# Altium schematic symbol library u025Library.SchLib: 65 symbols
Pins are listed as number, name and electrical type; pins without a type are passive.

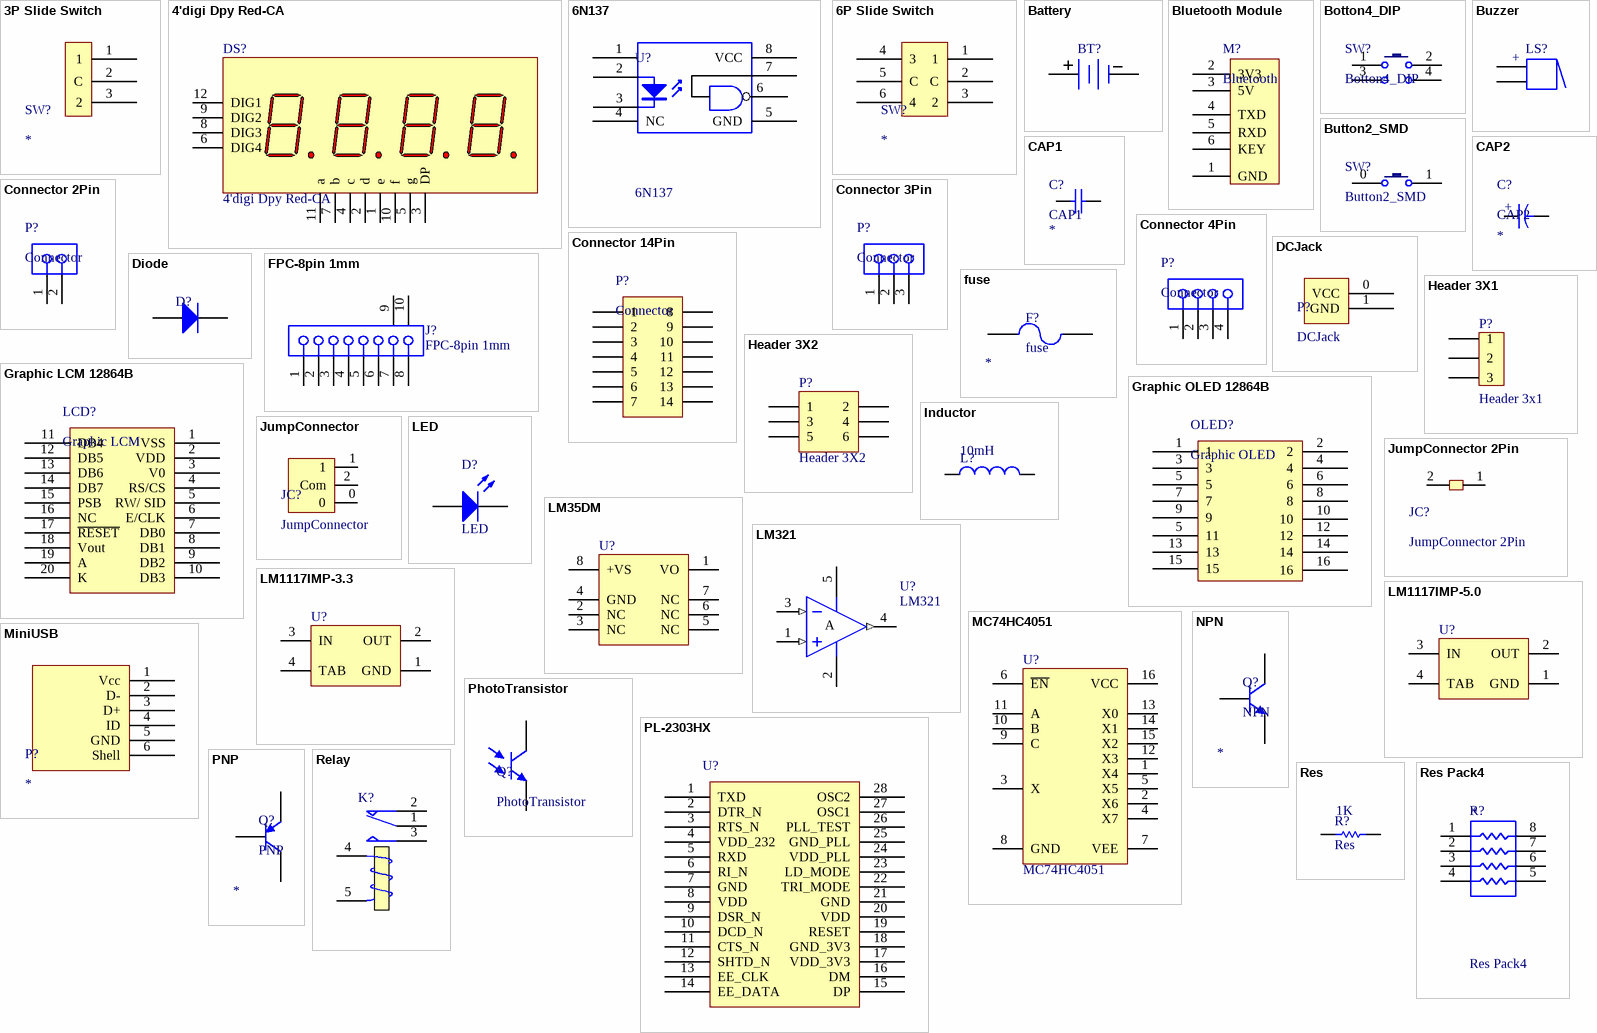
[diagram p0: symbols 3P Slide Switch to Res Pack4]

## 3P Slide Switch
designator SW?
3Pin Slide Switch
footprint 3P_Smooth_Switch_180
footprint 3P_Smooth_Switch_90
pins: 1, 2 C, 3 2

## 4'digi Dpy Red-CA
designator DS?
7.62 mm Black Surface HER 7-Segment Display: CA, RH DP; MinimumIntensity: 360 ucd; Note: IF = 5 mA; Colour: High Efficiency Red (HER); Note: Pins 1 and 6 are redundant Anodes.; Published: 8-Jun-2000; LatestRevisionDate: 17-Dec-2003; LatestRevisionNote: Schematic revised, PCB Footprint replaced.; DatasheetVersion: 19-Feb-2002; PackageVersion: 11-Feb-2002; PackageReference: A; Publisher: Altium Limited; PackageDescription: LED, 7-Segment Display, 7.62 mm, RHD; 10 Leads; Row Space 5.08 mm; Pitch 2.54 mm; ComponentLink1Description: Manufacturer Link; ComponentLink1URL: http://www.agilent.com/
footprint 4'digi Dpy Red-CA 3461 0.36' (4-Digi LED, 7-Segment Display)
pins: 1 e "Cathode", 2 d "Cathode", 3 DP "Cathode", 4 c "Cathode", 5 g "Cathode", 6 DIG4 "Cathode", 7 b "Cathode", 8 DIG3 "Cathode", 9 DIG2 "Cathode", 10 f "Cathode", 11 a "Cathode", 12 DIG1 "Cathode"

## 6N137
designator U?
8 PIN HIGH SPEED 10MBit/s LOGIC GATE  PHOTOCOUPLER
footprint BESOP-8 (BESOP  8-Leads, Body 6.6x9.76mm, Pitch 2.54mm,)
pins: 1 NC, 2 A, 3 K, 4 NC, 5 GND, 6 14, 7 14, 8 VCC

## 6P Slide Switch
designator SW?
6Pin Slide Switch
footprint 6P_Smooth_Switch_90
footprint 6P_Smooth_Switch_180
pins: 1, 2 C, 3 2, 4 3, 5 C, 6 4

## Battery
designator BT?
Multicell Battery; Published: 24-Mar-1999; LatestRevisionDate: 17-Jul-2002; LatestRevisionNote: Re-released for DXP Platform.; PackageReference: BAT-2; Publisher: Altium Limited; PackageDescription: Battery; 2 Leads
footprint BAT-2 (Battery; 2 Leads)
footprint BAT-CR1220 (Battery; CR1220)
pins: 1 +, 2 -

## Bluetooth Module
designator M?, comment Bluetooth
Bluetooth Module
footprint Bluetooth Module
pins: 1 GND, 2 3V3, 3 5V, 4 TXD, 5 RXD, 6 KEY

## Botton4_DIP
designator SW?
footprint Botton4_DIP
footprint Botton4_MiniSMD
pins: 1, 2, 3, 4

## Button2_SMD
designator SW?
footprint Button2_SMD
pins: 0, 1

## Buzzer
designator LS?
Magnetic Transducer Buzzer; Published: 24-Mar-1999; LatestRevisionDate: 17-Dec-2003; LatestRevisionNote: Schematic revised, PCB Footprint replaced.; DatasheetVersion: 17-Dec-2003; PackageReference: ABSM-1574; Publisher: Altium Limited; PackageDescription: Magnetic Transducer Buzzer; ComponentLink1Description: Manufacturer Link; ComponentLink1URL: http://www.megastar.com/linecard/buzzmode/index.php
footprint Buzzer DIP
footprint Buzzer SMT Top
footprint Buzzer SMT Side
pins: 1, 2
1 alternate drawing of the same symbol
text: +

## CAP1
designator C?
Capacitor_SMD; Value: *
footprint SMD-C-0603 (Chip, Body 1.6x0.8mm, IPC High Density)
footprint SMD-C-0805 (Chip  , Body 2 x 1.2mm, IPC High Density)
footprint SMD-C-1206 (Chip , Body 3.2x1.6mm, IPC High Density)
footprint Ceramic Capacitor
footprint SMD-C-0402 (Chip, Body 10x0.4mm, IPC High Density)
pins: 1, 2

## CAP2
designator C?
Electrolytic CAP; Value: *
footprint Electrolytic CAP_1
footprint EcCAP_SMD (EcCAP SMD 4x5x5mm)
footprint Tantalum Cap Size A
footprint Tantalum Cap Size B
footprint Tantalum Cap Size C
pins: 1, 2
text: +

## Connector 2Pin
designator P?, comment Connector
Connector 2Pin
footprint JST 2Pin 90 degree (Connector; JST; 2 Position 90)
footprint JST 2Pin 180 degree (Connector; JST; 2 Position 180)
pins: 1, 2

## Connector 3Pin
designator P?, comment Connector
Connector 3Pin
pins: 1, 2, 3

## Connector 4Pin
designator P?, comment Connector
Connector 4Pin
footprint FPC 4pin 1.0mm (Connector; FH12 Series; 4 Position; 1.0mm Spaced Bottom Eccentric Contact)
footprint JST 4Pin 90 degree (Connector; JST; 4 Position 90)
footprint JST 4Pin 180 degree (Connector; JST; 4 Position)
pins: 1, 2, 3, 4

## Connector 14Pin
designator P?, comment Connector
Connector 14Pin
footprint FPC 14pin 0.5mm (Connector; FH12 Series; 14 Position; 0.5mm Spaced Bottom Eccentric Contact)
pins: 1, 2, 3, 4, 5, 6, 7, 8, 9, 10, 11, 12, 13, 14

## DCJack
designator P?
footprint DCJack_1mm
footprint DCJack_2mm
pins: 0 VCC, 1 GND

## Diode
designator D?  (value not drawn)
Model  Number: *
footprint Diode_SMD_SMA
footprint Diode_SMD_MicroSMP
pins: 1 A, 2 K

## FPC-8pin 1mm
designator J?
FH12 Series, "Flip-Lock" SMT/ZIF FFC/FPC Connector - 1.0mm Spaced Bottom Eccentric Contact; Positions: 8; ContactMaterial: Phosphor Bronze; Current: 0.5A; PCB_Layout: Complies with manufacturer's recommendation.; Note: Pad dimensions follow nominal values, Suitable for Wave Soldering, Adjust for Re-flow.; Published: 17-Jul-2002; DatasheetVersion: 13-Nov-2000; PackageVersion: 13-Nov-2000; PackageReference: FH12-18(8)SA-1SH; Publisher: Altium Limited; ComponentLink1Description: Manufacturer Link; ComponentLink1URL: http://www.hiroseusa.com/; ComponentLink2Description: Datasheet; ComponentLink2URL: http://www.hirose.co.jp/cataloge_hp/e58605370.pdf
footprint FH12-18(8)SA-1SH (Connector; FH12 Series; 8 Position; 1.0mm Spaced Bottom Eccentric Contact)
signal-integrity model FH12
pins: 1, 2, 3, 4, 5, 6, 7, 8, 9 MH1, 10 MH2

## fuse
designator F?
Value: *
footprint FUSE_SMD
footprint FUSE_Nano SMF (FUSE Nano SMF)
footprint FUSE CLIP
pins: 1, 2

## Graphic LCM 12864B
designator LCD?, comment Graphic LCM
Graphic LCM 12864B
footprint GraphicLCM12864_20PIN (GraphicLCM12864_20PIN_15mm)
pins: 1 VSS, 2 VDD, 3 V0, 4 RS/CS, 5 RW/ SID, 6 E/CLK, 7 DB0, 8 DB1, 9 DB2, 10 DB3, 11 DB4, 12 DB5, 13 DB6, 14 DB7, 15 PSB, 16 NC, 17 ~{RESET}, 18 Vout, 19 A, 20 K

## Graphic OLED 12864B
designator OLED?, comment Graphic OLED
Graphic OLED 12864
footprint OLED_12864_H2X8 (Connector; Header; 8x2 Position)
pins: 1, 2, 3, 4, 5, 5 11, 6, 7, 8, 9, 10, 12, 13, 14, 15, 16

## Header 3X1
designator P?, comment Header 3x1
Header, 3-Pin, Dual row; LatestRevisionDate: 17-Jul-2002; LatestRevisionNote: Re-released for DXP Platform.; Publisher: Altium Limited
footprint HDR3X1 2.0mm (Connector; Header; 31 Position 2.0mm)
pins: 1, 2, 3

## Header 3X2
designator P?
Header, 3-Pin, Dual row; LatestRevisionDate: 17-Jul-2002; LatestRevisionNote: Re-released for DXP Platform.; Publisher: Altium Limited
signal-integrity model Connector
footprint HDR2X3 2.0mm (Connector; Header; 3x2 Position 2.0mm)
pins: 1, 2, 3, 4, 5, 6

## Inductor
designator L?  value 10mH
Inductor; Code_IEC: 1005; Published: 8-Jun-2000; LatestRevisionDate: 29-May-2009; LatestRevisionNote: IPC-7351 Footprint Added.; PackageReference: 0402-A; Publisher: Altium Limited; PackageDescription: Chip Inductor; Code_JEITA: 0402
footprint INDC1608L (Chip Inductor, Body 1.6x0.8mm, IPC High Density)
footprint INDC3216 (Chip Inductor, Body 3.2x1.6mm, IPC High Density)
footprint INDC4532 (Chip Inductor, Body 4.5x3.2mm, IPC High Density)
simulation model INDUCTOR (Inductor)
signal-integrity model Inductor
footprint SMD-L-1210
pins: 1, 2

## JumpConnector
designator JC?
footprint JumpConnector_Pad (JumpConnector SMD Pad Only)
footprint JumpConnector_Dip254 (JumpConnector Hold 2.54mm)
pins: 0, 1, 2 Com

## JumpConnector 2Pin
designator JC?
JumpConnector
footprint JumpConnector2P_Dip (JumpConnector Hold 2.54mm)
footprint JumpConnector2P_Pad (JumpConnector SMD Pad Only)
pins: 1, 2 Com

## LED
designator D?
Typical RED GaAs LED; Published: 8-Jun-2000; LatestRevisionDate: 08-Jul-2005; LatestRevisionNote: Mech Layer 1 removed.; PackageReference: LED-1; Publisher: Altium Limited; PackageDescription: LED; 2 Leads
footprint SMT LED 0603 (SMT LED; 2 Flat Leads)
footprint SMT LED 0805 (SMT LED; 2 Flat Leads)
footprint SMT LED 1206 (SMT LED; 2 Flat Leads)
footprint LED_DIP_3mm
footprint LED_DIP_5mm
pins: 1 A, 2 K

## LM35DM
designator U?
Precision Centigrade Temperature Sensor; PartNumber: LM35DM; Manufacturer: National Semiconductor; CompType: Temp Sensor IC; PackageTopMarking: NSZXTT*LM35D*M; PowerWise: N; Published: 4-Dec-2008; DatasheetVersion: Nov-2000; PackageVersion: revL, Sep-2006; PackageReference: M08A; Publisher: Altium Limited; PackageDescription: SOIC Narrow, 4.9 x 3.9 x 1.45mm, 8 Lead, 1.27mm Pitch; RoHS: O; PinCount: 8; DigiKeyPartNumber: LM35DM-ND; Code_JEDEC: MS-012-AA; Code_IPC: SOIC127P600-8; ComponentLink1Description: LM35 Datasheet; ComponentLink1URL: http://www.national.com/ds/LM/LM35.pdf; ComponentLink2Description: LM35 Web Page; ComponentLink2URL: http://www.national.com/pf/LM/LM35.html; ComponentLink3Description: M08A Package Page; ComponentLink3URL: http://www.national.com/packaging/folders/m08a.html
footprint SOIC8N_M (SOIC, 8-Leads, Body 4.9x3.9mm, Pitch 1.27mm, IPC Low Density)
pins: 1 VO, 2 NC "Not Connected", 3 NC, 4 GND (power), 5 NC, 6 NC, 7 NC, 8 +VS

## LM321
designator U?
Single Operational Amplifier; Published: 16-Jan-2001; LatestRevisionDate: 13-Apr-2006; LatestRevisionNote: IPC-7351 Footprint Added.; DatasheetVersion: Jul-1998; PackageVersion: Jan-1998; PackageReference: D008; Publisher: Altium Limited; PackageDescription: 8-Pin Small Outline Integrated Circuit 1.27 mm Pitch; Code_IPC: SOIC127P600-8; ComponentLink1Description: Manufacturer Link; ComponentLink1URL: http://www.ti.com/; ComponentLink2Description: Datasheet; ComponentLink2URL: http://www-s.ti.com/sc/ds/lm2904.pdf
footprint SOT23-5_N (SOT23, 5-Leads, Body 2.9x1.6mm, Pitch 0.95mm, Lead Span 2.8mm, IPC Medium Density)
pins: 1 IN+ (in), 2 V- (power), 3 IN- (in), 4 OUT (out), 5 V+ (power)
text: A

## LM1117IMP-3.3
designator U?
800mA Low-Dropout Linear Regulator; PartNumber: LM1117IMP-3.3; Manufacturer: National Semiconductor; CompType: LDO IC; PackageTopMarking: XYTT*N05B; PowerWise: N; Published: 4-Dec-2008; DatasheetVersion: Apr-2006; PackageVersion: revB, Apr-2003; PackageReference: MP04A; Publisher: Altium Limited; PackageDescription: Molded SOT-223, 6.50 x 3.56 x 1.6mm Body, 4 Lead, 2.3mm Pitch; RoHS: O; PinCount: 4; DigiKeyPartNumber: LM1117IMP-3.3CT-ND; Code_JEDEC: TO-261-AA; Code_IPC: SOT223-4; ComponentLink1Description: LM1117 Datasheet; ComponentLink1URL: http://www.national.com/ds/LM/LM1117.pdf; ComponentLink2Description: LM1117 Web Page; ComponentLink2URL: http://www.national.com/pf/LM/LM1117.html; ComponentLink3Description: MP04A Package Page; ComponentLink3URL: http://www.national.com/packaging/folders/mp04a.html
footprint MP04A_N (SOT223, 4-Leads, Body 6.5x3.5mm, Pitch 2.3mm, Lead Span 7mm, IPC Medium Density)
footprint MP04A_L (SOT223, 4-Leads, Body 6.5x3.5mm, Pitch 2.3mm, Lead Span 7mm, IPC High Density)
footprint MP04A_M (SOT223, 4-Leads, Body 6.5x3.5mm, Pitch 2.3mm, Lead Span 7mm, IPC Low Density)
pins: 1 GND (power), 2 OUT (power), 3 IN (power), 4 TAB (power)

## LM1117IMP-5.0
designator U?
800mA Low-Dropout Linear Regulator; PartNumber: LM1117IMP-5.0; Manufacturer: National Semiconductor; CompType: LDO IC; PackageTopMarking: XYTT*N06B; PowerWise: N; Published: 4-Dec-2008; DatasheetVersion: Apr-2006; PackageVersion: revB, Apr-2003; PackageReference: MP04A; Publisher: Altium Limited; PackageDescription: Molded SOT-223, 6.50 x 3.56 x 1.6mm Body, 4 Lead, 2.3mm Pitch; RoHS: O; PinCount: 4; DigiKeyPartNumber: LM1117IMP-5.0CT-ND; Code_JEDEC: TO-261-AA; Code_IPC: SOT223-4; ComponentLink1Description: LM1117 Datasheet; ComponentLink1URL: http://www.national.com/ds/LM/LM1117.pdf; ComponentLink2Description: LM1117 Web Page; ComponentLink2URL: http://www.national.com/pf/LM/LM1117.html; ComponentLink3Description: MP04A Package Page; ComponentLink3URL: http://www.national.com/packaging/folders/mp04a.html
footprint MP04A_N (SOT223, 4-Leads, Body 6.5x3.5mm, Pitch 2.3mm, Lead Span 7mm, IPC Medium Density)
footprint MP04A_L (SOT223, 4-Leads, Body 6.5x3.5mm, Pitch 2.3mm, Lead Span 7mm, IPC High Density)
footprint MP04A_M (SOT223, 4-Leads, Body 6.5x3.5mm, Pitch 2.3mm, Lead Span 7mm, IPC Low Density)
pins: 1 GND (power), 2 OUT (power), 3 IN (power), 4 TAB (power)

## MC74HC4051
designator U?
Analog Multiplexer/Demultiplexer; Published: 17-Jul-2002; LatestRevisionDate: 06-Jun-2005; LatestRevisionNote: Stylized 3D Model Added; DatasheetVersion: Mar-2000; PackageVersion: Mar-2000; PackageReference: 948F-01; Publisher: Altium Limited; PackageDescription: Shrink Small Outline; 16 Leads; Body Width 4.4 mm; Pitch 0.65 mm; ComponentLink1Description: Manufacturer Link; ComponentLink1URL: http://www.onsemi.com/site/products/parametrics/0,4446,47,00.html; ComponentLink2Description: Datasheet; ComponentLink2URL: http://www.onsemi.com/pub/Collateral/MC74HC4051A-D.PDF
footprint TSSOP-16 (Shrink Small Outline; 16 Leads; Body Width 4.4 mm; Pitch 0.65 mm)
pins: 1 X4, 2 X6, 3 X, 4 X7, 5 X5, 6 ~{EN}, 7 VEE (power), 8 GND (power), 9 C, 10 B, 11 A, 12 X3, 13 X0, 14 X1, 15 X2, 16 VCC (power)

## MiniUSB
designator P?
MiniUSB include Data Pin
footprint MiniUSB_SMD
pins: 1 Vcc, 2 D-, 3 D+, 4 ID, 5 GND, 6 Shell

## NPN
designator Q?
NPN Trasister; Model  Number: *
footprint SOT-23 - S8050 (SOT-23 for S8050)
footprint SOT-23
pins: 1 E, 2 B, 3 C

## PhotoTransistor
designator Q?
footprint PhotoTransistor
pins: 0 C, 1 E

## PL-2303HX
designator U?
Prolific PL-2303HX USB to Serial Bridge Controller, SSOP28; Published: 30-May-2008; DatasheetVersion: rev6, Mar-2008; PackageVersion: Mar-2008; PackageReference: LQFP48; Publisher: Altium Limited; PackageDescription: 48-Pin Low-Profile Quad Flat Pack, 7 x 7 mm Body, 0.5 mm Pitch (LQFP48); ComponentLink1Description: Manufacturer Link; ComponentLink1URL: www.st.com/stm32; ComponentLink2Description: Datasheet; ComponentLink2URL: http://www.st.com/stonline/products/literature/ds/13587.pdf
footprint SSOP28_N (SOP, 28-Leads, Body 10.2x5.3mm, Pitch 0.65mm, IPC Medium Density)
pins: 1 TXD, 2 DTR_N, 3 RTS_N, 4 VDD_232, 5 RXD, 6 RI_N, 7 GND, 8 VDD, 9 DSR_N, 10 DCD_N, 11 CTS_N, 12 SHTD_N, 13 EE_CLK, 14 EE_DATA, 15 DP, 16 DM, 17 VDD_3V3, 18 GND_3V3, 19 RESET, 20 VDD, 21 GND, 22 TRI_MODE, 23 LD_MODE, 24 VDD_PLL, 25 GND_PLL, 26 PLL_TEST, 27 OSC1, 28 OSC2

## PNP
designator Q?
PNP Trasister; Model  Number: *
footprint SOT-23
footprint SOT-23 - S8550
pins: 1 C, 2 B, 3 E

## Relay
designator K?
SPDT Relay; Published: 8-Jun-2000; LatestRevisionDate: 17-Jul-2002; LatestRevisionNote: Re-released for DXP Platform.; PackageReference: MODULE5B; Publisher: Altium Limited
footprint Relay_5vDC_833H
pins: 1 COM, 2 NC, 3 NO, 4 T1, 5 T2

## Res
designator R?  value 1K
Resistor; Published: 8-Jun-2000; LatestRevisionDate: 17-Jul-2002; LatestRevisionNote: Re-released for DXP Platform.; PackageReference: AXIAL-0.3; Publisher: Altium Limited; PackageDescription: Axial Device, Thru-Hole; 2 Leads; 0.3 in Pin Spacing
footprint SMD-R-0603 (Chip, Body 1.6x0.8mm, IPC High Density)
footprint SMD-R-0805 (Chip  , Body 2 x 1.2mm, IPC High Density)
footprint SMD-R-1206 (Chip , Body 3.2x1.6mm, IPC High Density)
footprint SMD-R-0402 (Chip, Body 10x0.4mm, IPC High Density)
pins: 1, 2

## Res Pack4
designator R?
Isolated Resistor Network; Published: 24-Mar-1999; LatestRevisionDate: 29-May-2009; LatestRevisionNote: IPC-7351 Footprint Added.; PackageReference: SO-16; Publisher: Altium Limited; PackageDescription: 16-Pin Small Outline Integrated Circuit 1.27 mm Pitch; Code_JEDEC: MS-012-AC; Code_IPC: SOIC127P600-16; Value: *
footprint SMD-Resistor Network 4 0603 (SMD-Resistor Network 4 0603 32mm*16mm)
pins: 1, 2, 3, 4, 5, 6, 7, 8

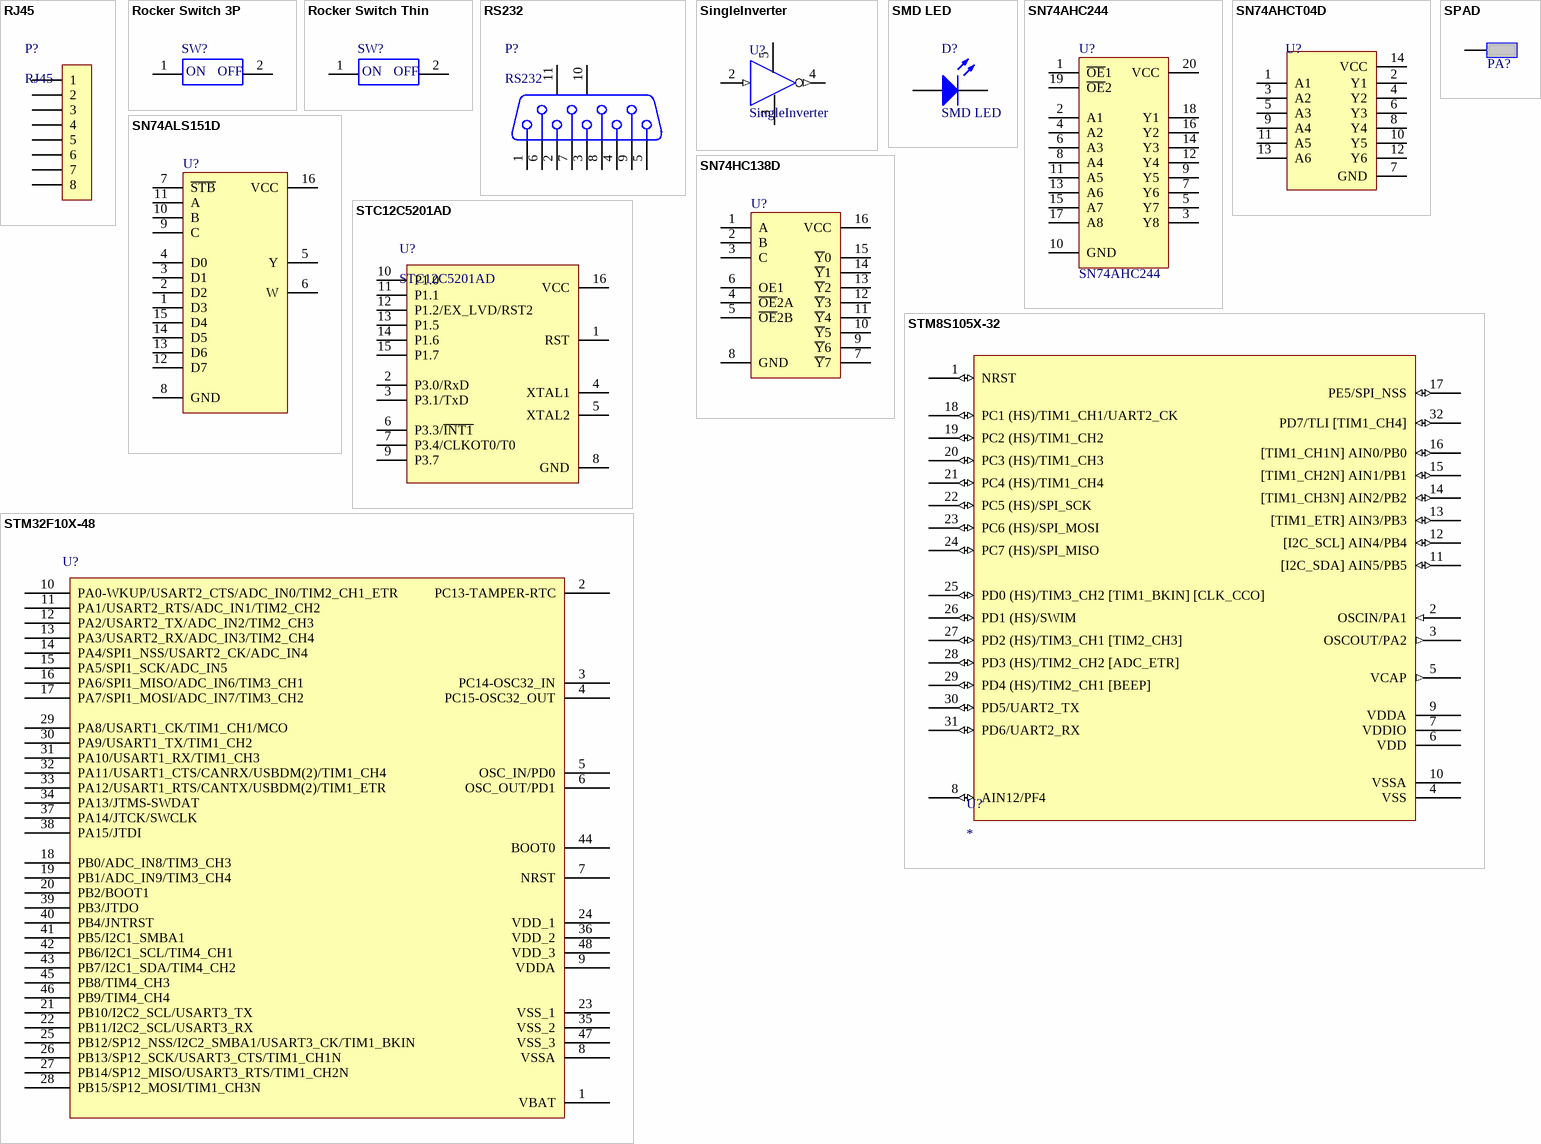
[diagram p1: symbols RJ45 to STM32F10X-48]

## RJ45
designator P?
RJ45 Connector
footprint RJ45Min
footprint RJ45 8P8C
pins: 1, 2, 3, 4, 5, 6, 7, 8

## Rocker Switch 3P
designator SW?, comment SW  (value not drawn)
Rocker Switch 3P; Published: 24-Mar-1999; LatestRevisionDate: 17-Jul-2002; LatestRevisionNote: Re-released for DXP Platform.; PackageReference: DIP-4; Publisher: Altium Limited
footprint Rocker Switch 2P Thin Mode
pins: 1 A1, 2 B1
text: ON; OFF

## Rocker Switch Thin
designator SW?, comment SW  (value not drawn)
Rocker Switch Thin; Published: 24-Mar-1999; LatestRevisionDate: 17-Jul-2002; LatestRevisionNote: Re-released for DXP Platform.; PackageReference: DIP-4; Publisher: Altium Limited
footprint Rocker Switch 2P Thin Mode
pins: 1 A1, 2 B1
text: ON; OFF

## RS232
designator P?
RS232 ダ Connector
footprint RS232_そ
footprint RS232_ダ
pins: 1, 2, 3, 4, 5, 6, 7, 8, 9, 10 MH1, 11 MH2

## SingleInverter
designator U?
Single Inverter; Published: 17-Jul-2002; LatestRevisionDate: 06-Jun-2005; LatestRevisionNote: Stylized 3D Model Added; DatasheetVersion: 1989; PackageVersion: 1997; PackageReference: 646-06; Publisher: Altium Limited; PackageDescription: DIP; 14 Leads; Row Spacing 7.62 mm; Pitch 2.54 mm; ComponentLink1Description: Manufacturer Link; ComponentLink1URL: http://www.onsemi.com/site/products/parametrics/0,4446,247,00.html; ComponentLink2Description: Ibis Model; ComponentLink2URL: http://www.onsemi.com/pub/Collateral/MC54HCU04J.IBS
footprint SOT23-5_N (SOT23, 5-Leads, Body 2.9x1.6mm, Pitch 0.95mm, Lead Span 2.8mm, IPC Medium Density)
pins: 2 A (in), 3 G, 4 Y (out), 5 Vcc

## SMD LED
designator D?
Typical RED GaAs LED; Published: 8-Jun-2000; LatestRevisionDate: 08-Jul-2005; LatestRevisionNote: Mech Layer 1 removed.; PackageReference: LED-1; Publisher: Altium Limited; PackageDescription: LED; 2 Leads
footprint SMT LED 0603 (SMT LED; 2 Flat Leads)
footprint SMT LED 0805 (SMT LED; 2 Flat Leads)
footprint SMT LED 1206 (SMT LED; 2 Flat Leads)
pins: 1 A, 2 K

## SN74AHC244
designator U?
Octal Buffer/Driver with 3-State Outputs; ComponentAvailability: Obsolete; Published: 8-Jun-2000; LatestRevisionDate: 16-Oct-2006; LatestRevisionNote: IPC-7351 Footprint Added.; DatasheetVersion: Jul-1998; PackageVersion: May-1999; PackageReference: DB020; Publisher: Altium Limited; PackageDescription: 20-Pin Plastic Small Outline Package 0.65 mm Pitch; Code_JEDEC: MO-150-AE; Code_IPC: SOP65P780-20; ComponentLink1Description: Manufacturer Link; ComponentLink1URL: http://www.ti.com/; ComponentLink2Description: Datasheet; ComponentLink2URL: http://www-s.ti.com/sc/ds/sn74ahc244.pdf
footprint TSSOP20 (Shrink Small Outline; 20 Leads; Body Width 4.4 mm; Pitch 0.65 mm)
pins: 1 ~{OE}1, 2 A1, 3 Y8 (hiz), 4 A2, 5 Y7 (hiz), 6 A3, 7 Y6 (hiz), 8 A4, 9 Y5 (hiz), 10 GND (power), 11 A5, 12 Y4 (hiz), 13 A6, 14 Y3 (hiz), 15 A7, 16 Y2 (hiz), 17 A8, 18 Y1 (hiz), 19 ~{OE}2, 20 VCC (power)

## SN74AHCT04D
designator U?
Hex Inverter; Published: 8-Jun-2000; LatestRevisionDate: 13-Apr-2006; LatestRevisionNote: IPC-7351 Footprint Added.; DatasheetVersion: Oct-1998; PackageVersion: Jan-1998; PackageReference: D014; Publisher: Altium Limited; PackageDescription: 14-Pin Small Outline Integrated Circuit 1.27 mm Pitch; Code_IPC: SOIC127P600-14; ComponentLink1Description: Manufacturer Link; ComponentLink1URL: http://www.ti.com/; ComponentLink2Description: Datasheet; ComponentLink2URL: http://www-s.ti.com/sc/ds/sn74ahct04.pdf; ComponentLink3Description: Packaging Specification; ComponentLink3URL: http://focus.ti.com/lit/ml/mpds177/mpds177.pdf
footprint D014_N (SOIC, 14-Leads, Body 8.7x3.9mm, Pitch 1.27mm, IPC Medium Density)
footprint D014_L (SOIC, 14-Leads, Body 8.7x3.9mm, Pitch 1.27mm, IPC High Density)
footprint D014_M (SOIC, 14-Leads, Body 8.7x3.9mm, Pitch 1.27mm, IPC Low Density)
3D model D014 (14-Pin Small Outline Integrated Circuit 1.27 mm Pitch)
signal-integrity model SN74AHCT04D
pins: 1 A1, 2 Y1 (hiz), 3 A2, 4 Y2 (hiz), 5 A3, 6 Y3 (hiz), 7 GND (power), 8 Y4 (hiz), 9 A4, 10 Y5 (hiz), 11 A5, 12 Y6 (hiz), 13 A6, 14 VCC (power)

## SN74ALS151D
designator U?
1-of-8 Data Selector/Multiplexer; Published: 8-Jun-2000; LatestRevisionDate: 13-Apr-2006; LatestRevisionNote: IPC-7351 Footprint Added.; DatasheetVersion: Dec-1994; PackageVersion: Jan-1998; PackageReference: D016; Publisher: Altium Limited; PackageDescription: 16-Pin Small Outline Integrated Circuit 1.27 mm Pitch; Code_IPC: SOIC127P600-16; ComponentLink1Description: Manufacturer Link; ComponentLink1URL: http://www.ti.com/; ComponentLink2Description: Datasheet; ComponentLink2URL: http://www-s.ti.com/sc/ds/sn74als151.pdf
footprint SOIC-16 (SOIC, 16-Leads, Body 9.9x3.9mm, Pitch 1.27mm, IPC Low Density)
pins: 1 D3, 2 D2, 3 D1, 4 D0, 5 Y, 6 W, 7 ~{STB}, 8 GND (power), 9 C, 10 B, 11 A, 12 D7, 13 D6, 14 D5, 15 D4, 16 VCC (power)

## SN74HC138D
designator U?
3-Line to 8-Line Decoder / Demultiplexer; Published: 8-Jun-2000; LatestRevisionDate: 13-Apr-2006; LatestRevisionNote: IPC-7351 Footprint Added.; DatasheetVersion: May-1997; PackageVersion: Jan-1998; PackageReference: D016; Publisher: Altium Limited; PackageDescription: 16-Pin Small Outline Integrated Circuit 1.27 mm Pitch; Code_IPC: SOIC127P600-16; ComponentLink1Description: Manufacturer Link; ComponentLink1URL: http://www.ti.com/; ComponentLink2Description: Datasheet; ComponentLink2URL: http://www-s.ti.com/sc/ds/sn74hc138.pdf
footprint SOIC-16 (SOIC, 16-Leads, Body 9.9x3.9mm, Pitch 1.27mm, IPC Low Density)
pins: 1 A, 2 B, 3 C, 4 ~{OE}2A, 5 ~{OE}2B, 6 OE1, 7 ~{Y}7, 8 GND (power), 9 ~{Y}6, 10 ~{Y}5, 11 ~{Y}4, 12 ~{Y}3, 13 ~{Y}2, 14 ~{Y}1, 15 ~{Y}0, 16 VCC (power)

## SPAD
designator PA?  (value not drawn)
footprint SPAD_1x0.7
footprint SPAD_2.5x8
footprint SPAD_2x4
pins: 1 PAD

## STC12C5201AD
designator U?
footprint SOIC-16 (SOIC, 16-Leads, Body 9.9x3.9mm, Pitch 1.27mm, IPC Low Density)
pins: 1 RST, 2 P3.0/RxD, 3 P3.1/TxD, 4 XTAL1, 5 XTAL2, 6 P3.3/~{INT1}, 7 P3.4/CLKOT0/T0, 8 GND (power), 9 P3.7, 10 P1.0 (oc), 11 P1.1 (oc), 12 P1.2/EX_LVD/RST2 (oc), 13 P1.5 (oc), 14 P1.6 (oc), 15 P1.7 (oc), 16 VCC (power)

## STM8S105X-32
designator U?
STM8 8-bit MCU , 32-pin LQFP,
footprint LQFP-32_N (Thin QFP, 32-Leads, Body 7x7mm, Pitch 0.8mm, IPC Medium Density)
pins: 1 NRST (io), 2 OSCIN/PA1 (in), 3 OSCOUT/PA2 (out), 4 VSS, 5 VCAP (out), 6 VDD, 7 VDDIO, 8 AIN12/PF4 (io), 9 VDDA, 10 VSSA, 11 [I2C_SDA] AIN5/PB5 (io), 12 [I2C_SCL] AIN4/PB4 (io), 13 [TIM1_ETR] AIN3/PB3 (io), 14 [TIM1_CH3N] AIN2/PB2 (io), 15 [TIM1_CH2N] AIN1/PB1 (io), 16 [TIM1_CH1N] AIN0/PB0 (io), 17 PE5/SPI_NSS (io), 18 PC1 (HS)/TIM1_CH1/UART2_CK (io), 19 PC2 (HS)/TIM1_CH2 (io), 20 PC3 (HS)/TIM1_CH3 (io), 21 PC4 (HS)/TIM1_CH4 (io), 22 PC5 (HS)/SPI_SCK (io), 23 PC6 (HS)/SPI_MOSI (io), 24 PC7 (HS)/SPI_MISO (io), 25 PD0 (HS)/TIM3_CH2 [TIM1_BKIN] [CLK_CCO] (io), 26 PD1 (HS)/SWIM (io), 27 PD2 (HS)/TIM3_CH1 [TIM2_CH3] (io), 28 PD3 (HS)/TIM2_CH2 [ADC_ETR] (io), 29 PD4 (HS)/TIM2_CH1 [BEEP] (io), 30 PD5/UART2_TX (io), 31 PD6/UART2_RX (io), 32 PD7/TLI [TIM1_CH4] (io)

## STM32F10X-48
designator U?
STM32 ARM-based 32-bit MCU , 48-pin LQFP, Industrial Temperature; Published: 30-May-2008; DatasheetVersion: rev6, Mar-2008; PackageVersion: Mar-2008; PackageReference: LQFP48; Publisher: Altium Limited; PackageDescription: 48-Pin Low-Profile Quad Flat Pack, 7 x 7 mm Body, 0.5 mm Pitch (LQFP48); ComponentLink1Description: Manufacturer Link; ComponentLink1URL: www.st.com/stm32; ComponentLink2Description: Datasheet; ComponentLink2URL: http://www.st.com/stonline/products/literature/ds/13587.pdf
footprint LQFP48_N (Thin QFP, 48-Leads, Body 7x7mm, Pitch 0.5mm, IPC Medium Density)
footprint LQFP48_L (Thin QFP, 48-Leads, Body 7x7mm, Pitch 0.5mm, IPC High Density)
footprint LQFP48_M (Thin QFP, 48-Leads, Body 7x7mm, Pitch 0.5mm, IPC Low Density)
footprint LQFP48_OutSide (Thin QFP, 48-Leads, Body 7x7mm, Pitch 0.5mm, IPC Medium Density)
pins: 1 VBAT (power), 2 PC13-TAMPER-RTC, 3 PC14-OSC32_IN, 4 PC15-OSC32_OUT, 5 OSC_IN/PD0, 6 OSC_OUT/PD1, 7 NRST, 8 VSSA (power), 9 VDDA (power), 10 PA0-WKUP/USART2_CTS/ADC_IN0/TIM2_CH1_ETR, 11 PA1/USART2_RTS/ADC_IN1/TIM2_CH2, 12 PA2/USART2_TX/ADC_IN2/TIM2_CH3, 13 PA3/USART2_RX/ADC_IN3/TIM2_CH4, 14 PA4/SPI1_NSS/USART2_CK/ADC_IN4, 15 PA5/SPI1_SCK/ADC_IN5, 16 PA6/SPI1_MISO/ADC_IN6/TIM3_CH1, 17 PA7/SPI1_MOSI/ADC_IN7/TIM3_CH2, 18 PB0/ADC_IN8/TIM3_CH3, 19 PB1/ADC_IN9/TIM3_CH4, 20 PB2/BOOT1, 21 PB10/I2C2_SCL/USART3_TX, 22 PB11/I2C2_SCL/USART3_RX, 23 VSS_1 (power), 24 VDD_1 (power), 25 PB12/SP12_NSS/I2C2_SMBA1/USART3_CK/TIM1_BKIN, 26 PB13/SP12_SCK/USART3_CTS/TIM1_CH1N, 27 PB14/SP12_MISO/USART3_RTS/TIM1_CH2N, 28 PB15/SP12_MOSI/TIM1_CH3N, 29 PA8/USART1_CK/TIM1_CH1/MCO, 30 PA9/USART1_TX/TIM1_CH2, 31 PA10/USART1_RX/TIM1_CH3, 32 PA11/USART1_CTS/CANRX/USBDM(2)/TIM1_CH4, 33 PA12/USART1_RTS/CANTX/USBDM(2)/TIM1_ETR, 34 PA13/JTMS-SWDAT, 35 VSS_2 (power), 36 VDD_2 (power), 37 PA14/JTCK/SWCLK, 38 PA15/JTDI, 39 PB3/JTDO, 40 PB4/JNTRST, 41 PB5/I2C1_SMBA1, 42 PB6/I2C1_SCL/TIM4_CH1, 43 PB7/I2C1_SDA/TIM4_CH2, 44 BOOT0, 45 PB8/TIM4_CH3, 46 PB9/TIM4_CH4, 47 VSS_3 (power), 48 VDD_3 (power)

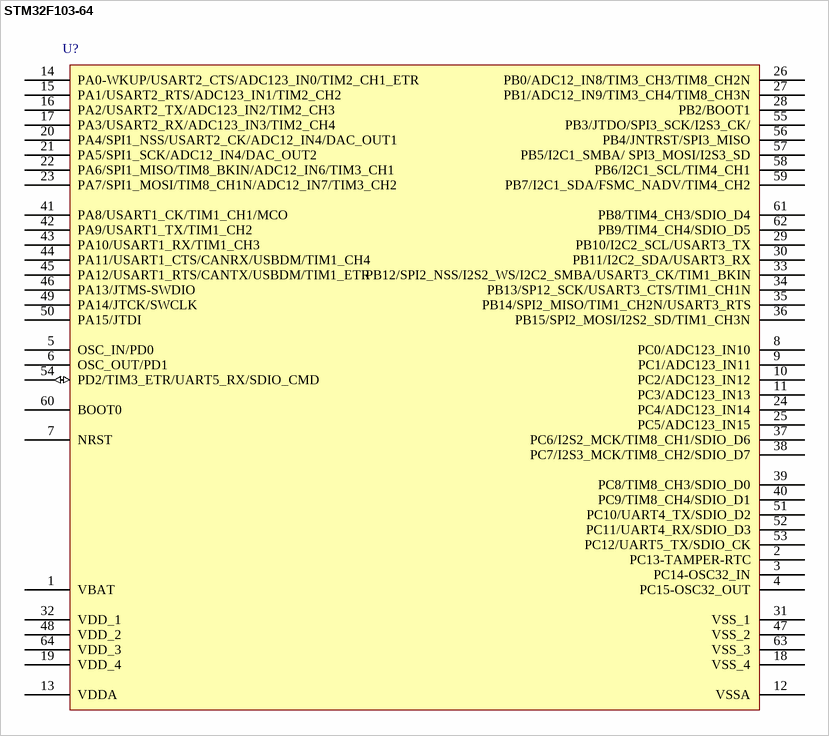
[diagram p2: symbol STM32F103-64]

## STM32F103-64
designator U?
STM32 ARM-based 32-bit MCU with 64 Kbytes Flash, 64-pin LQFP, Industrial Temperature; Published: 30-May-2008; DatasheetVersion: rev6, Mar-2008; PackageVersion: Mar-2008; PackageReference: LQFP64; Publisher: Altium Limited; PackageDescription: 64-Pin Low-Profile Quad Flat Pack, 10 x 10 mm Body, 0.5 mm Pitch (LQFP64); ComponentLink1Description: Manufacturer Link; ComponentLink1URL: www.st.com/stm32; ComponentLink2Description: Datasheet; ComponentLink2URL: http://www.st.com/stonline/products/literature/ds/13587.pdf
footprint LQFP64_N (Thin QFP, 64-Leads, Body 10x10mm, Pitch 0.5mm, IPC Medium Density)
footprint LQFP64_L (Thin QFP, 64-Leads, Body 10x10mm, Pitch 0.5mm, IPC High Density)
footprint LQFP64_M (Thin QFP, 64-Leads, Body 10x10mm, Pitch 0.5mm, IPC Low Density)
footprint LQFP64_OutSide (Thin QFP, 64-Leads, Body 10x10mm, Pitch 0.5mm, IPC Medium Density)
pins: 1 VBAT (power), 2 PC13-TAMPER-RTC, 3 PC14-OSC32_IN, 4 PC15-OSC32_OUT, 5 OSC_IN/PD0, 6 OSC_OUT/PD1, 7 NRST, 8 PC0/ADC123_IN10, 9 PC1/ADC123_IN11, 10 PC2/ADC123_IN12, 11 PC3/ADC123_IN13, 12 VSSA (power), 13 VDDA (power), 14 PA0-WKUP/USART2_CTS/ADC123_IN0/TIM2_CH1_ETR, 15 PA1/USART2_RTS/ADC123_IN1/TIM2_CH2, 16 PA2/USART2_TX/ADC123_IN2/TIM2_CH3, 17 PA3/USART2_RX/ADC123_IN3/TIM2_CH4, 18 VSS_4 (power), 19 VDD_4 (power), 20 PA4/SPI1_NSS/USART2_CK/ADC12_IN4/DAC_OUT1, 21 PA5/SPI1_SCK/ADC12_IN4/DAC_OUT2, 22 PA6/SPI1_MISO/TIM8_BKIN/ADC12_IN6/TIM3_CH1, 23 PA7/SPI1_MOSI/TIM8_CH1N/ADC12_IN7/TIM3_CH2, 24 PC4/ADC123_IN14, 25 PC5/ADC123_IN15, 26 PB0/ADC12_IN8/TIM3_CH3/TIM8_CH2N, 27 PB1/ADC12_IN9/TIM3_CH4/TIM8_CH3N, 28 PB2/BOOT1, 29 PB10/I2C2_SCL/USART3_TX, 30 PB11/I2C2_SDA/USART3_RX, 31 VSS_1 (power), 32 VDD_1 (power), 33 PB12/SPI2_NSS/I2S2_WS/I2C2_SMBA/USART3_CK/TIM1_BKIN, 34 PB13/SP12_SCK/USART3_CTS/TIM1_CH1N, 35 PB14/SPI2_MISO/TIM1_CH2N/USART3_RTS, 36 PB15/SPI2_MOSI/I2S2_SD/TIM1_CH3N, 37 PC6/I2S2_MCK/TIM8_CH1/SDIO_D6, 38 PC7/I2S3_MCK/TIM8_CH2/SDIO_D7, 39 PC8/TIM8_CH3/SDIO_D0, 40 PC9/TIM8_CH4/SDIO_D1, 41 PA8/USART1_CK/TIM1_CH1/MCO, 42 PA9/USART1_TX/TIM1_CH2, 43 PA10/USART1_RX/TIM1_CH3, 44 PA11/USART1_CTS/CANRX/USBDM/TIM1_CH4, 45 PA12/USART1_RTS/CANTX/USBDM/TIM1_ETR, 46 PA13/JTMS-SWDIO (hiz), 47 VSS_2 (power), 48 VDD_2 (power), 49 PA14/JTCK/SWCLK, 50 PA15/JTDI, 51 PC10/UART4_TX/SDIO_D2, 52 PC11/UART4_RX/SDIO_D3, 53 PC12/UART5_TX/SDIO_CK, 54 PD2/TIM3_ETR/UART5_RX/SDIO_CMD (io), 55 PB3/JTDO/SPI3_SCK/I2S3_CK/, 56 PB4/JNTRST/SPI3_MISO, 57 PB5/I2C1_SMBA/ SPI3_MOSI/I2S3_SD, 58 PB6/I2C1_SCL/TIM4_CH1, 59 PB7/I2C1_SDA/FSMC_NADV/TIM4_CH2, 60 BOOT0, 61 PB8/TIM4_CH3/SDIO_D4, 62 PB9/TIM4_CH4/SDIO_D5, 63 VSS_3 (power), 64 VDD_3 (power)

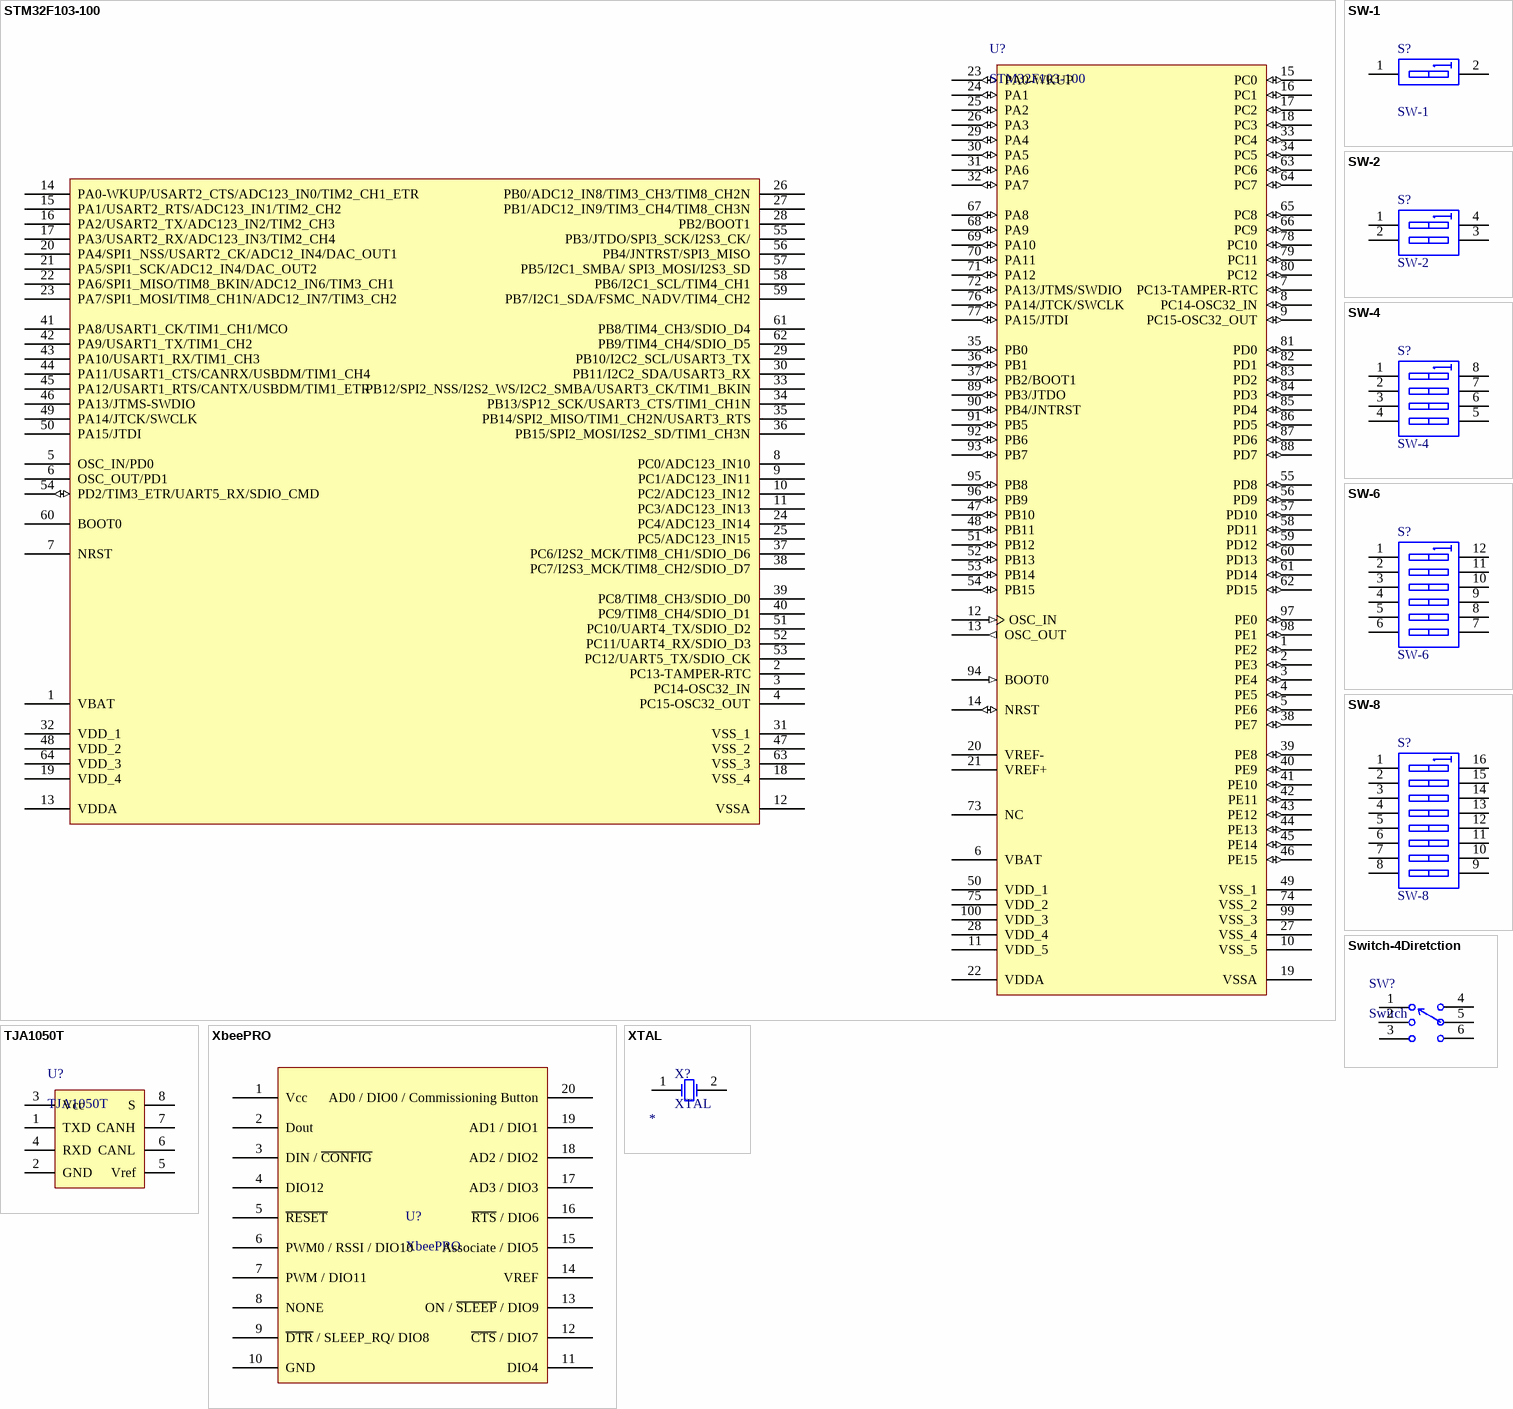
[diagram p3: symbols STM32F103-100 to XTAL]

## STM32F103-100
designator U?
STM32 ARM-based 32-bit MCU with 64 Kbytes Flash, 100-pin LQFP, Industrial Temperature; Published: 30-May-2008; DatasheetVersion: rev6, Mar-2008; PackageVersion: Mar-2008; PackageReference: LQFP100; Publisher: Altium Limited; PackageDescription: 100-Pin Low-Profile Quad Flat Pack, 14 x 14 mm Body, 0.5 mm Pitch (LQFP100); ComponentLink1Description: Manufacturer Link; ComponentLink1URL: www.st.com/stm32; ComponentLink2Description: Datasheet; ComponentLink2URL: http://www.st.com/stonline/products/literature/ds/13587.pdf
footprint LQFP100_N (Thin QFP, 100-Leads, Body 14x14mm, Pitch 0.5mm, IPC Medium Density)
footprint LQFP100_L (Thin QFP, 100-Leads, Body 14x14mm, Pitch 0.5mm, IPC High Density)
footprint LQFP100_M (Thin QFP, 100-Leads, Body 14x14mm, Pitch 0.5mm, IPC Low Density)
pins: 1 PE2 (io), 1 VBAT (power), 2 PE3 (io), 2 PC13-TAMPER-RTC, 3 PE4 (io), 3 PC14-OSC32_IN, 4 PE5 (io), 4 PC15-OSC32_OUT, 5 PE6 (io), 5 OSC_IN/PD0, 6 VBAT (power), 6 OSC_OUT/PD1, 7 PC13-TAMPER-RTC (io), 7 NRST, 8 PC14-OSC32_IN (io), 8 PC0/ADC123_IN10, 9 PC15-OSC32_OUT (io), 9 PC1/ADC123_IN11, 10 VSS_5 (power), 10 PC2/ADC123_IN12, 11 VDD_5 (power), 11 PC3/ADC123_IN13, 12 OSC_IN (in), 12 VSSA (power), 13 OSC_OUT (out), 13 VDDA (power), 14 NRST (io), 14 PA0-WKUP/USART2_CTS/ADC123_IN0/TIM2_CH1_ETR, 15 PC0 (io), 15 PA1/USART2_RTS/ADC123_IN1/TIM2_CH2, 16 PC1 (io), 16 PA2/USART2_TX/ADC123_IN2/TIM2_CH3, 17 PC2 (io), 17 PA3/USART2_RX/ADC123_IN3/TIM2_CH4, 18 PC3 (io), 18 VSS_4 (power), 19 VSSA (power), 19 VDD_4 (power), 20 VREF- (power), 20 PA4/SPI1_NSS/USART2_CK/ADC12_IN4/DAC_OUT1, 21 VREF+ (power), 21 PA5/SPI1_SCK/ADC12_IN4/DAC_OUT2, 22 VDDA (power), 22 PA6/SPI1_MISO/TIM8_BKIN/ADC12_IN6/TIM3_CH1, 23 PA0-WKUP (io), 23 PA7/SPI1_MOSI/TIM8_CH1N/ADC12_IN7/TIM3_CH2, 24 PA1 (io), 24 PC4/ADC123_IN14, 25 PA2 (io), 25 PC5/ADC123_IN15, 26 PA3 (io), 26 PB0/ADC12_IN8/TIM3_CH3/TIM8_CH2N, 27 VSS_4 (power), 27 PB1/ADC12_IN9/TIM3_CH4/TIM8_CH3N, 28 VDD_4 (power), 28 PB2/BOOT1, 29 PA4 (io), 29 PB10/I2C2_SCL/USART3_TX, 30 PA5 (io), 30 PB11/I2C2_SDA/USART3_RX, 31 PA6 (io), 31 VSS_1 (power), 32 PA7 (io), 32 VDD_1 (power), 33 PC4 (io), 33 PB12/SPI2_NSS/I2S2_WS/I2C2_SMBA/USART3_CK/TIM1_BKIN, 34 PC5 (io), 34 PB13/SP12_SCK/USART3_CTS/TIM1_CH1N, 35 PB0 (io), 35 PB14/SPI2_MISO/TIM1_CH2N/USART3_RTS, 36 PB1 (io), 36 PB15/SPI2_MOSI/I2S2_SD/TIM1_CH3N, 37 PB2/BOOT1 (io), 37 PC6/I2S2_MCK/TIM8_CH1/SDIO_D6, 38 PE7 (io), 38 PC7/I2S3_MCK/TIM8_CH2/SDIO_D7, 39 PE8 (io), 39 PC8/TIM8_CH3/SDIO_D0, 40 PE9 (io), 40 PC9/TIM8_CH4/SDIO_D1, 41 PE10 (io), 41 PA8/USART1_CK/TIM1_CH1/MCO, 42 PE11 (io), 42 PA9/USART1_TX/TIM1_CH2, 43 PE12 (io), 43 PA10/USART1_RX/TIM1_CH3, 44 PE13 (io), 44 PA11/USART1_CTS/CANRX/USBDM/TIM1_CH4, 45 PE14 (io), 45 PA12/USART1_RTS/CANTX/USBDM/TIM1_ETR, 46 PE15 (io), 46 PA13/JTMS-SWDIO (hiz), 47 PB10 (io), 47 VSS_2 (power), 48 PB11 (io), 48 VDD_2 (power), 49 VSS_1 (power), 49 PA14/JTCK/SWCLK, 50 VDD_1 (power), 50 PA15/JTDI, 51 PB12 (io), 51 PC10/UART4_TX/SDIO_D2, 52 PB13 (io), 52 PC11/UART4_RX/SDIO_D3, 53 PB14 (io), 53 PC12/UART5_TX/SDIO_CK, 54 PB15 (io), 54 PD2/TIM3_ETR/UART5_RX/SDIO_CMD (io), 55 PD8 (io), 55 PB3/JTDO/SPI3_SCK/I2S3_CK/, 56 PD9 (io), 56 PB4/JNTRST/SPI3_MISO, 57 PD10 (io), 57 PB5/I2C1_SMBA/ SPI3_MOSI/I2S3_SD, 58 PD11 (io), 58 PB6/I2C1_SCL/TIM4_CH1, 59 PD12 (io), 59 PB7/I2C1_SDA/FSMC_NADV/TIM4_CH2, 60 PD13 (io), 60 BOOT0, 61 PD14 (io), 61 PB8/TIM4_CH3/SDIO_D4, 62 PD15 (io), 62 PB9/TIM4_CH4/SDIO_D5, 63 PC6 (io), 63 VSS_3 (power), 64 PC7 (io), 64 VDD_3 (power), 65 PC8 (io), 66 PC9 (io), 67 PA8 (io), 68 PA9 (io), 69 PA10 (io), 70 PA11 (io), 71 PA12 (io), 72 PA13/JTMS/SWDIO (io), 73 NC, 74 VSS_2 (power), 75 VDD_2 (power), 76 PA14/JTCK/SWCLK (io), 77 PA15/JTDI (io), 78 PC10 (io), 79 PC11 (io), 80 PC12 (io), 81 PD0 (io), 82 PD1 (io), 83 PD2 (io), 84 PD3 (io), 85 PD4 (io), 86 PD5 (io), 87 PD6 (io), 88 PD7 (io), 89 PB3/JTDO (io), 90 PB4/JNTRST (io), 91 PB5 (io), 92 PB6 (io), 93 PB7 (io), 94 BOOT0 (in), 95 PB8 (io), 96 PB9 (io), 97 PE0 (io), 98 PE1 (io), 99 VSS_3 (power), 100 VDD_3 (power)

## SW-1
designator S?
Switch, 2 Position, SPST; Published: 24-Mar-1999; LatestRevisionDate: 17-Jul-2002; LatestRevisionNote: Re-released for DXP Platform.; PackageReference: DIP-4; Publisher: Altium Limited
footprint DIP_SW_1WAY_DIP (DIP; 2 Leads; Row Spacing 7.62 mm; Pitch 2.54 mm)
pins: 1 A1, 2 B1

## SW-2
designator S?
Switch, 2 Position, SPST; Published: 24-Mar-1999; LatestRevisionDate: 17-Jul-2002; LatestRevisionNote: Re-released for DXP Platform.; PackageReference: DIP-4; Publisher: Altium Limited
footprint DIP_SW_2WAY_SMD (DIP Switch; 4 Leads)
footprint DIP_SW_2WAY_DIP (DIP; 4 Leads; Row Spacing 7.62 mm; Pitch 2.54 mm)
footprint DIP_SW_2WAY_SMD_1.27 (DIP Switch; 4 Leads)
pins: 1 A1, 2 A2, 3 B2, 4 B1

## SW-4
designator S?
Switch, 4 Position, SPST; Published: 24-Mar-1999; LatestRevisionDate: 29-May-2009; LatestRevisionNote: IPC-7351 Footprint Added.; PackageVersion: Dec-2002; PackageReference: SO8; Publisher: Altium Limited; PackageDescription: 8-Pin Small Outline Integrated Circuit 1.27 mm Pitch; Code_JEDEC: MS-012-AA; Code_IPC: SOIC127P600-8
footprint DIP_SW_4WAY_DIP (DIP; 4 Leads; Row Spacing 7.62 mm; Pitch 2.54 mm)
footprint DIP_SW_4WAY_SMD (DIP Switch; 8 Leads)
footprint DIP_SW_4WAY_SMD_1.27 (DIP Switch; 8 Leads)
pins: 1 A1, 2 A2, 3 A3, 4 A4, 5 B4, 6 B3, 7 B2, 8 B1

## SW-6
designator S?
Switch, 6 Position, SPST; Published: 24-Mar-1999; LatestRevisionDate: 17-Jul-2002; LatestRevisionNote: Re-released for DXP Platform.; PackageReference: DIP-12/SW; Publisher: Altium Limited; PackageDescription: DIP Switch; 12 Leads
footprint DIP_SW_6WAY_DIP (DIP; 12 Leads; Row Spacing 7.62 mm; Pitch 2.54 mm)
footprint DIP_SW_6WAY_SMD (DIP Switch; 12 Leads)
footprint DIP_SW_6WAY_SMD_1.27 (DIP Switch; 12 Leads)
pins: 1 A1, 2 A2, 3 A3, 4 A4, 5 A5, 6 A6, 7 B6, 8 B5, 9 B4, 10 B3, 11 B2, 12 B1

## SW-8
designator S?
Switch, 8 Position, SPST; Published: 24-Mar-1999; LatestRevisionDate: 17-Jul-2002; LatestRevisionNote: Re-released for DXP Platform.; PackageReference: DIP_SW_8WAY_SMD; Publisher: Altium Limited; PackageDescription: DIP Switch; 16 Leads
footprint DIP_SW_8WAY_DIP (DIP; 16 Leads; Row Spacing 7.62 mm; Pitch 2.54 mm)
footprint DIP_SW_8WAY_SMD (DIP Switch; 16 Leads)
footprint DIP_SW_8WAY_SMD_1.27 (DIP Switch; 16 Leads)
pins: 1 A1, 2 A2, 3 A3, 4 A4, 5 A5, 6 A6, 7 A7, 8 A8, 9 B8, 10 B7, 11 B6, 12 B5, 13 B4, 14 B3, 15 B2, 16 B1

## Switch-4Diretction
designator SW?, comment Switch
Switch 4 Diretction
footprint Botton 4 Direction SMD
pins: 1, 2, 3, 4, 5, 6

## TJA1050T
designator U?
TJA1050T CAN BUS Transceiver
footprint SOIC8N_M (SOIC, 8-Leads, Body 4.9x3.9mm, Pitch 1.27mm, IPC Low Density)
pins: 1 TXD (power), 2 GND, 3 Vcc, 4 RXD "Not Connected", 5 Vref, 6 CANL, 7 CANH, 8 S

## XbeePRO
designator U?
footprint XbeePRO
pins: 1 Vcc, 2 Dout, 3 DIN / ~{CONFIG}, 4 DIO12, 5 ~{RESET}, 6 PWM0 / RSSI / DIO10, 7 PWM / DIO11, 8 NONE, 9 ~{DTR} / SLEEP_RQ/ DIO8, 10 GND, 11 DIO4, 12 ~{CTS} / DIO7, 13 ON / ~{SLEEP} / DIO9, 14 VREF, 15 Associate / DIO5, 16 ~{RTS} / DIO6, 17 AD3 / DIO3, 18 AD2 / DIO2, 19 AD1 / DIO1, 20 AD0 / DIO0 / Commissioning
Button

## XTAL
designator X?
Value: *
footprint CRYSTAL
footprint CRYSTAL-3X8
footprint CRYSTAL-2x6 (CRYSTAL - 2mm x 6mm)
pins: 1 OSC1, 2 OSC2